# Altium footprint library M4_Close_Unplated.PcbLib: 1 footprints
Each footprint in its own frame and in the unit in brackets; x right, y up, seen from the top. Pads: shape width x height; smd on the part's side, far side on the other; paste and mask are expansions set on the pad; w line width, h text height; cw(c..) or ccw(c..) is an arc to the next point about the centre after c.
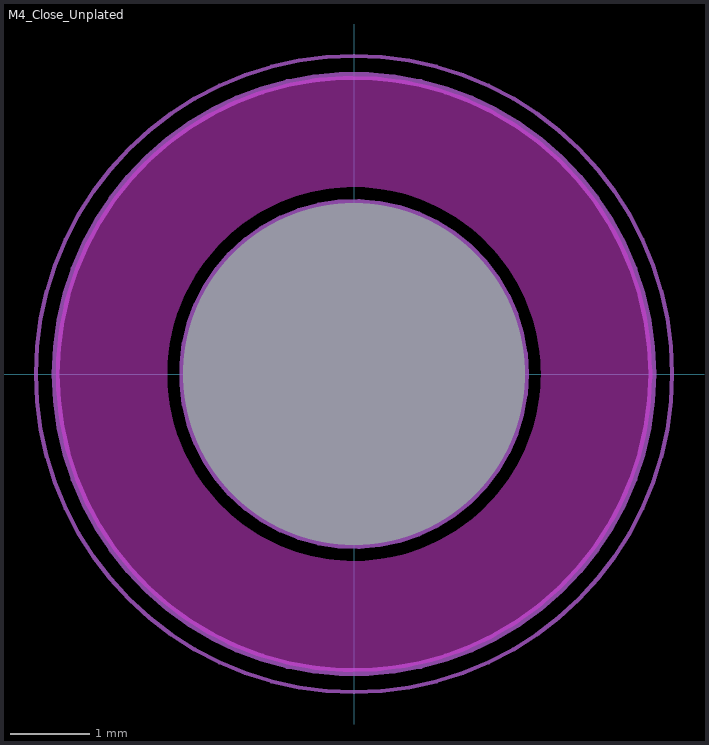
[diagram p0: the footprint, top view; thin cyan lines are the x and y axes]

## M4_Close_Unplated [mm]
pads (1):
  round 0 hole 4.3 unplated mask+3.75: 1(0,0)
Keep-Out Layer:
  circle w1.4: c0,0 r3.05
Mechanical 1:
  circle w0.1: c0,0 r3.75
  circle w0.1: c0,0 r2.15
  text ".Designator" at -0.625,-0.408 h0.65
Mechanical 2:
  circle w0.05: c0,0 r4
  lines w0.1: -0.5,0 0.5,0 ; 0,-0.5 0,0.5